# Altium footprint library PcbLib1.PcbLib: 2 footprints
Each footprint in its own frame and in the unit in brackets; x right, y up, seen from the top. Pads: shape width x height; smd on the part's side, far side on the other; paste and mask are expansions set on the pad; w line width, h text height; cw(c..) or ccw(c..) is an arc to the next point about the centre after c.
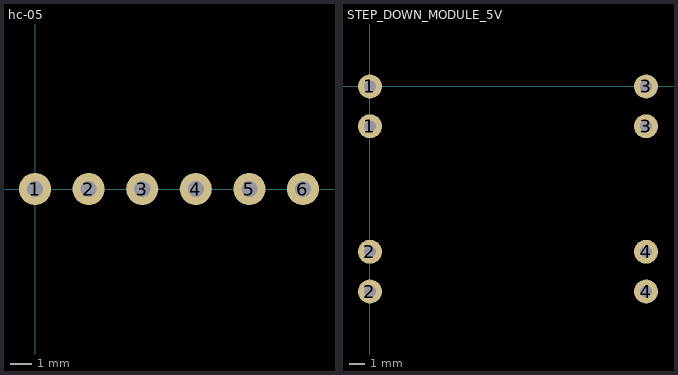
[diagram p0: the footprints below, top view; thin cyan lines are the x and y axes]

## hc-05 [mil]
pads (6):
  round 60 hole 30: 1(0,0) 2(100,0) 3(200,0) 4(300,0) 5(400,0) 6(500,0)

## STEP_DOWN_MODULE_5V [mil]
pads (8):
  round 60 hole 30: 1(0,-100) 1(0,0) 2(0,-514.96) 2(0,-414.96) 3(692.91,-100) 3(692.91,0) 4(692.91,-514.96) 4(692.91,-414.96)